# Altium integrated library Button.IntLib: 4 symbols
Pins are listed as number, name and electrical type; pins without a type are passive.

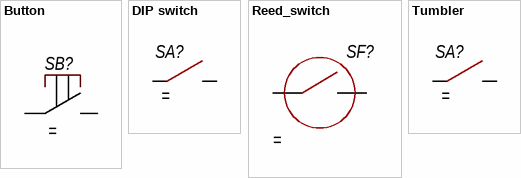
[diagram p0: symbols Button to Tumbler]

## Button
designator SB?
Model: *; Manufcacture: *; HelpURL: *; Case: *; Value: *
footprint Button tact KLS7-TS3603
footprint PBS26S
footprint BF3-4050
pins: 1, 2

## DIP switch
designator SA?
pins: 1, 2

## Reed_switch
designator SF?
footprint MK16-x-2
pins: 1, 2

## Tumbler
designator SA?
footprint ASW-15D-R(Red)
footprint ASW-15D-R(Green)
footprint ASW-15D-R(Red/shortened)
footprint ASW-15D-R(Green/Shortened)
pins: 1, 2